# Altium footprint library Cap_KEMET_C0805C104K5RAC_eec_IPC_B.PcbLib: 1 footprints
Each footprint in its own frame and in the unit in brackets; x right, y up, seen from the top. Pads: shape width x height; smd on the part's side, far side on the other; paste and mask are expansions set on the pad; w line width, h text height; cw(c..) or ccw(c..) is an arc to the next point about the centre after c.
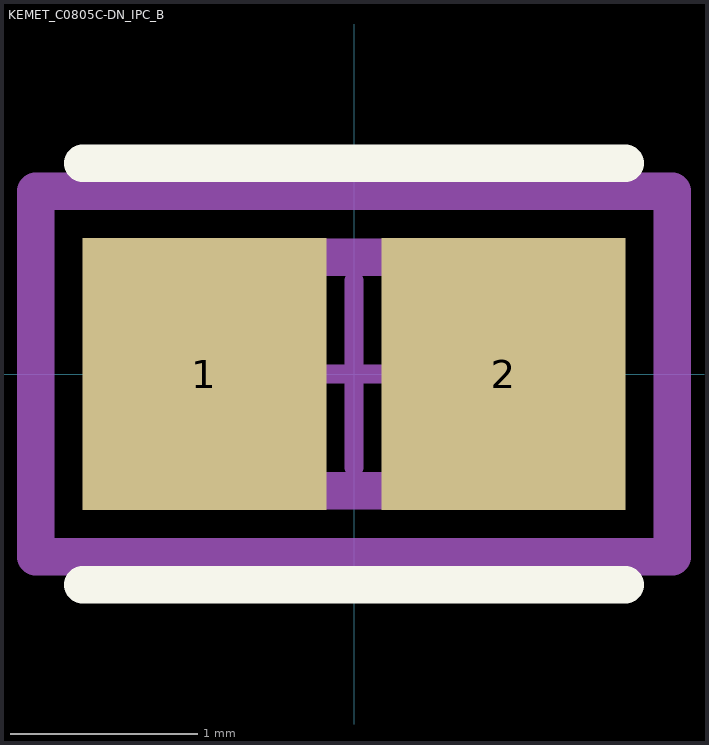
[diagram p0: the footprint, top view; thin cyan lines are the x and y axes]

## KEMET_C0805C-DN_IPC_B [mm]
pads (2):
  rect 1.305x1.456 smd paste+0 mask+0: 1(-0.801,0) 2(0.801,0)
Top Overlay:
  lines w0.2: -1.453,-1.128 1.453,-1.128 ; -1.453,1.128 1.453,1.128
Mechanical 10:
  lines w0.2: -1.703,-0.978 -1.703,0.978 1.703,0.978 1.703,-0.978 -1.703,-0.978
  text ".Designator" at 0,0.188 h1
Mechanical 12:
  lines w0.2: -1,-0.625 -1,0.625 1,0.625 1,-0.625 -1,-0.625
Mechanical 15:
  lines w0.1: -0.5,0 0.5,0 ; 0,-0.5 0,0.5
  lines w0.2: -1.703,-0.978 -1.703,0.978 1.703,0.978 1.703,-0.978 -1.703,-0.978
3D body "Cap_KEMET_C0805C104K5RAC_eec.STEP": height 0.25, standoff 0, extent -1.703,-0.978 1.703,0.978